# Altium schematic symbol library CONN-STD_MINI_USB_B.SchLib: 1 symbol
Pins are listed as number, name and electrical type; pins without a type are passive.

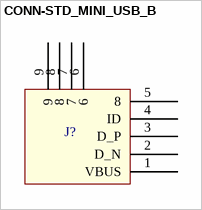
[diagram p0: symbol CONN-STD_MINI_USB_B]

## CONN-STD_MINI_USB_B
designator J?  (value not drawn)
pins: 1 VBUS, 2 D_N, 3 D_P, 4 ID, 5 8, 6, 7, 8, 9